# EAGLE library part CMT2210LCW (library CMOSTek)
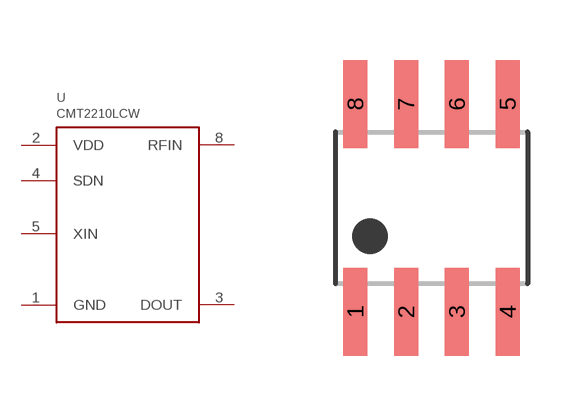
[diagram p1: symbol with the pads of SOIC8; footprint SOIC8]

Designator prefix U

## CMT2210LCW  [SOIC8]
1  GND
2  VDD
3  DOUT
4  SDN
5  XIN
8  RFIN

## Footprint SOIC8 (pad centres in mm)
smd 0.6 x 2.2: 1 -1.905,-2.6; 2 -0.635,-2.6; 3 0.635,-2.6; 4 1.905,-2.6; 5 1.905,2.6; 6 0.635,2.6; 7 -0.635,2.6; 8 -1.905,2.6